# Altium schematic symbol library dcLinkCaps.SchLib: 13 symbols
Pins are listed as number, name and electrical type; pins without a type are passive.

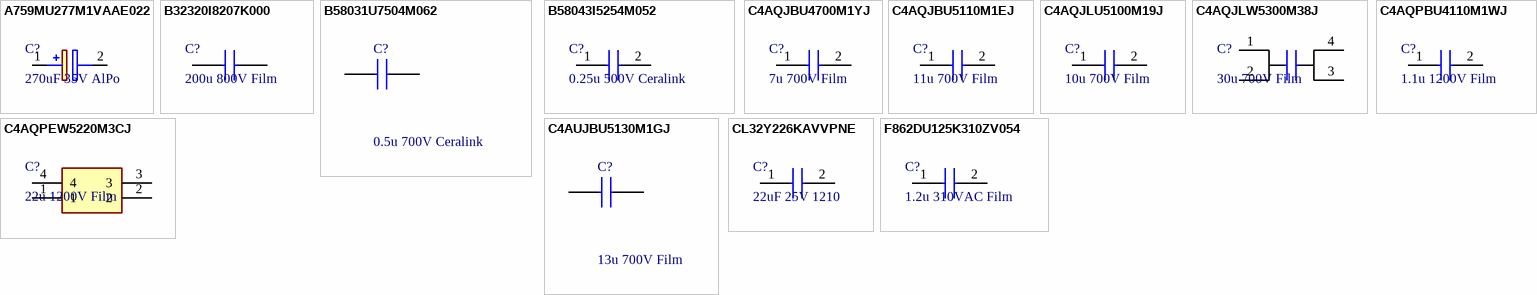
[diagram p0: symbols A759MU277M1VAAE022 to F862DU125K310ZV054]

## A759MU277M1VAAE022
designator C?, comment 270uF 35V AlPo
CAP ALUM POLY 270UF 35V; Manufacturer_Name: Yageo Group; Manufacturer_Part_Number: A759MU277M1VAAE022; Datasheet Link: https://content.kemet.com/datasheets/KEM_A4072_A759.pdf; Height: 14mm
footprint CAPPRD500W65D1000H1400
pins: 1 +, 2 -

## B32320I8207K000
designator C?, comment 200u 800V Film
CAP FILM RAD 200UF 800VDC; Manufacturer_Name: TDK; Manufacturer_Part_Number: B32320I8207K000; Datasheet Link: https://product.tdk.com/system/files/dam/doc/product/capacitor/film/ac-motor/data_sheet/b32320i_series.pdf; Height: 120mm; Mouser Part Number: 871-B32320I8207K000; Mouser Price/Stock: https://www.mouser.co.uk/ProductDetail/EPCOS-TDK/B32320I8207K000?qs=ti9wR6LxNKVDH%2F2Xvz2DHw%3D%3D
footprint B32320I8207K000
pins: 1, 2, 3, 4, 5

## B58031U7504M062
designator C?, comment 0.5u 700V Ceralink
CAP CERALINK 0.5UF 700V; Manufacturer_Name: TDK; Manufacturer_Part_Number: B58031U7504M062; Geometry.Height: 4.5mm; Mouser Part Number: 871-B58031U7504M062; Mouser Price/Stock: https://www.mouser.co.uk/ProductDetail/EPCOS-TDK/B58031U7504M062?qs=%2FQ2qp2Z%2FWFy3CL6Fsp6ffA%3D%3D; Arrow Part Number: B58031U7504M062; Arrow Price/Stock: https://www.arrow.com/en/products/b58031u7504m062/epcos-tdk; Datasheet Link: https://product.tdk.com/system/files/dam/doc/product/capacitor/ceramic/ceralink/data_sheet/20/10/ds/b58031_lp.pdf
footprint B58031U7504M062
pins: 1 +, 2 -

## B58043I5254M052
designator C?, comment 0.25u 500V Ceralink
CAP CERALINK 0.25UF 500V 2220; Manufacturer_Name: TDK; Manufacturer_Part_Number: B58043I5254M052; Datasheet Link: https://product.tdk.com/system/files/dam/doc/product/capacitor/ceramic/ceralink/data_sheet/20/10/ds/b58043_smd.pdf; Height: 1.6mm; Mouser Part Number: 871-B58043I5254M052; Mouser Price/Stock: https://www.mouser.co.uk/ProductDetail/EPCOS-TDK/B58043I5254M052?qs=QNEnbhJQKvZduYh2XfcrDw%3D%3D
footprint B58043I5254M052
pins: 1, 2

## C4AQJBU4700M1YJ
designator C?, comment 7u 700V Film
CAP FILM 7UF 700VDC; Manufacturer_Name: KEMET; Manufacturer_Part_Number: C4AQJBU4700M1YJ; Datasheet Link: https://content.kemet.com/datasheets/KEM_F3125_C4AQ_M.pdf; Height: 28.2mm; Mouser Part Number: 80-C4AQJBU4700M1YJ; Mouser Price/Stock: https://www.mouser.co.uk/ProductDetail/KEMET/C4AQJBU4700M1YJ?qs=81r%252BiQLm7BS8Bup5MnCiFQ%3D%3D
footprint C4AQJBU4700M1YJ
pins: 1, 2

## C4AQJBU5110M1EJ
designator C?, comment 11u 700V Film
CAP FILM 11UF 700VDC; Manufacturer_Name: KEMET; Manufacturer_Part_Number: C4AQJBU5110M1EJ; Datasheet Link: https://content.kemet.com/datasheets/KEM_F3125_C4AQ_M.pdf; Height: 33.2mm
footprint C4AQJBU5110M1EJ
pins: 1, 2

## C4AQJLU5100M19J
designator C?, comment 10u 700V Film
CAP FILM 10UF 700VDC; Manufacturer_Name: KEMET; Manufacturer_Part_Number: C4AQJLU5100M19J; Datasheet Link: https://content.kemet.com/datasheets/KEM_F3125_C4AQ_M.pdf; Height: 19.2mm; Mouser Part Number: 80-C4AQJLU5100M19J; Mouser Price/Stock: https://www.mouser.co.uk/ProductDetail/KEMET/C4AQJLU5100M19J?qs=81r%252BiQLm7BTbh0Wp0ks0Zw%3D%3D
footprint C4AQJLU5100M19J
pins: 1, 2

## C4AQJLW5300M38J
designator C?, comment 30u 700V Film
CAP FILM 30UF 700VDC; Manufacturer_Name: Yageo Group; Manufacturer_Part_Number: C4AQJLW5300M38J; Datasheet Link: https://www.yageogroup.com/content/datasheet/asset/file/KEM_F3125_C4AQ_M; Height: 25.2mm; Mouser Part Number: 80-C4AQJLW5300M38J; Mouser Price/Stock: https://www.mouser.co.uk/ProductDetail/KEMET/C4AQJLW5300M38J?qs=81r%252BiQLm7BQPDIKgnvCGAA%3D%3D
footprint C4AQJLW5300M38J
pins: 1, 2, 3, 4

## C4AQPBU4110M1WJ
designator C?, comment 1.1u 1200V Film
CAP FILM 1.1UF 1200VDC; Manufacturer_Name: KEMET; Manufacturer_Part_Number: C4AQPBU4110M1WJ; Datasheet Link: https://content.kemet.com/datasheets/KEM_F3125_C4AQ_M.pdf; Height: 20.2mm; Mouser Part Number: 80-C4AQPBU4110M1WJ; Mouser Price/Stock: https://www.mouser.co.uk/ProductDetail/KEMET/C4AQPBU4110M1WJ?qs=81r%252BiQLm7BR7Yk59RHT1sA%3D%3D
footprint C4AQPBU4110M1WJ
pins: 1, 2

## C4AQPEW5220M3CJ
designator C?, comment 22u 1200V Film
CAP FILM 22UF 1200VDC; Manufacturer_Name: KEMET; Manufacturer_Part_Number: C4AQPEW5220M3CJ; Datasheet Link: https://content.kemet.com/datasheets/KEM_F3125_C4AQ_M.pdf; Height: 57.3mm; Mouser Part Number: 80-C4AQPEW5220M3CJ; Mouser Price/Stock: https://www.mouser.co.uk/ProductDetail/KEMET/C4AQPEW5220M3CJ?qs=81r%252BiQLm7BQwjh1wyH0OZA%3D%3D
footprint C4AQPEW5220M3CJ
pins: 1, 2, 3, 4

## C4AUJBU5130M1GJ
designator C?, comment 13u 700V Film
CAP FILM 13UF 700VDC; Manufacturer_Name: KEMET; Manufacturer_Part_Number: C4AUJBU5130M1GJ; Geometry.Height: 37.7mm; Mouser Part Number: 80-C4AUJBU5130M1GJ; Mouser Price/Stock: https://www.mouser.co.uk/ProductDetail/KEMET/C4AUJBU5130M1GJ?qs=TuK3vfAjtkV42GmZ4T22qw%3D%3D; Arrow Part Number: *; Arrow Price/Stock: *; Datasheet Link: https://search.kemet.com/component-documentation/download/specsheet/C4AUJBU5130M1GJ
footprint C4AUJBU5130M1GJ
pins: 1, 2

## CL32Y226KAVVPNE
designator C?, comment 22uF 25V 1210
CAP CER 22UF 25V X7S 1210; Manufacturer_Name: SAMSUNG; Manufacturer_Part_Number: CL32Y226KAVVPNE; Datasheet Link: https://www.mouser.com/ProductDetail/Samsung-Electro-Mechanics/CL32Y476KPVVPNE?qs=HoCaDK9Nz5eDPpA1BTvjug%3D%3D&srsltid=AfmBOoorTsVzonIfYrLx_2UaQH68MnHsHhtbacE4uEGj0riOQc_Oyu81; Height: 2.8mm
footprint CAPC3225X280N
pins: 1, 2

## F862DU125K310ZV054
designator C?, comment 1.2u 310VAC Film
CAP FILM 1.2UF 310VAC 630VDC; Manufacturer_Name: KEMET; Manufacturer_Part_Number: F862DU125K310ZV054; Datasheet Link: https://connect.kemet.com:7667/gateway/IntelliData-ComponentDocumentation/1.0/download/specsheet/F862DU125K310ZV054; Height: 22mm; Arrow Part Number: F862DU125K310ZV054; Arrow Price/Stock: https://www.arrow.com/en/products/f862du125k310zv054/kemet-corporation?utm_currency=USD&region=europe
footprint F862DU125K310ZV054
pins: 1, 2